# Altium footprint library SQ-1.PcbLib: 34 footprints (part 1 of 3)
Each footprint in its own frame and in the unit in brackets; x right, y up, seen from the top. Pads: shape width x height; smd on the part's side, far side on the other; paste and mask are expansions set on the pad; w line width, h text height; cw(c..) or ccw(c..) is an arc to the next point about the centre after c.
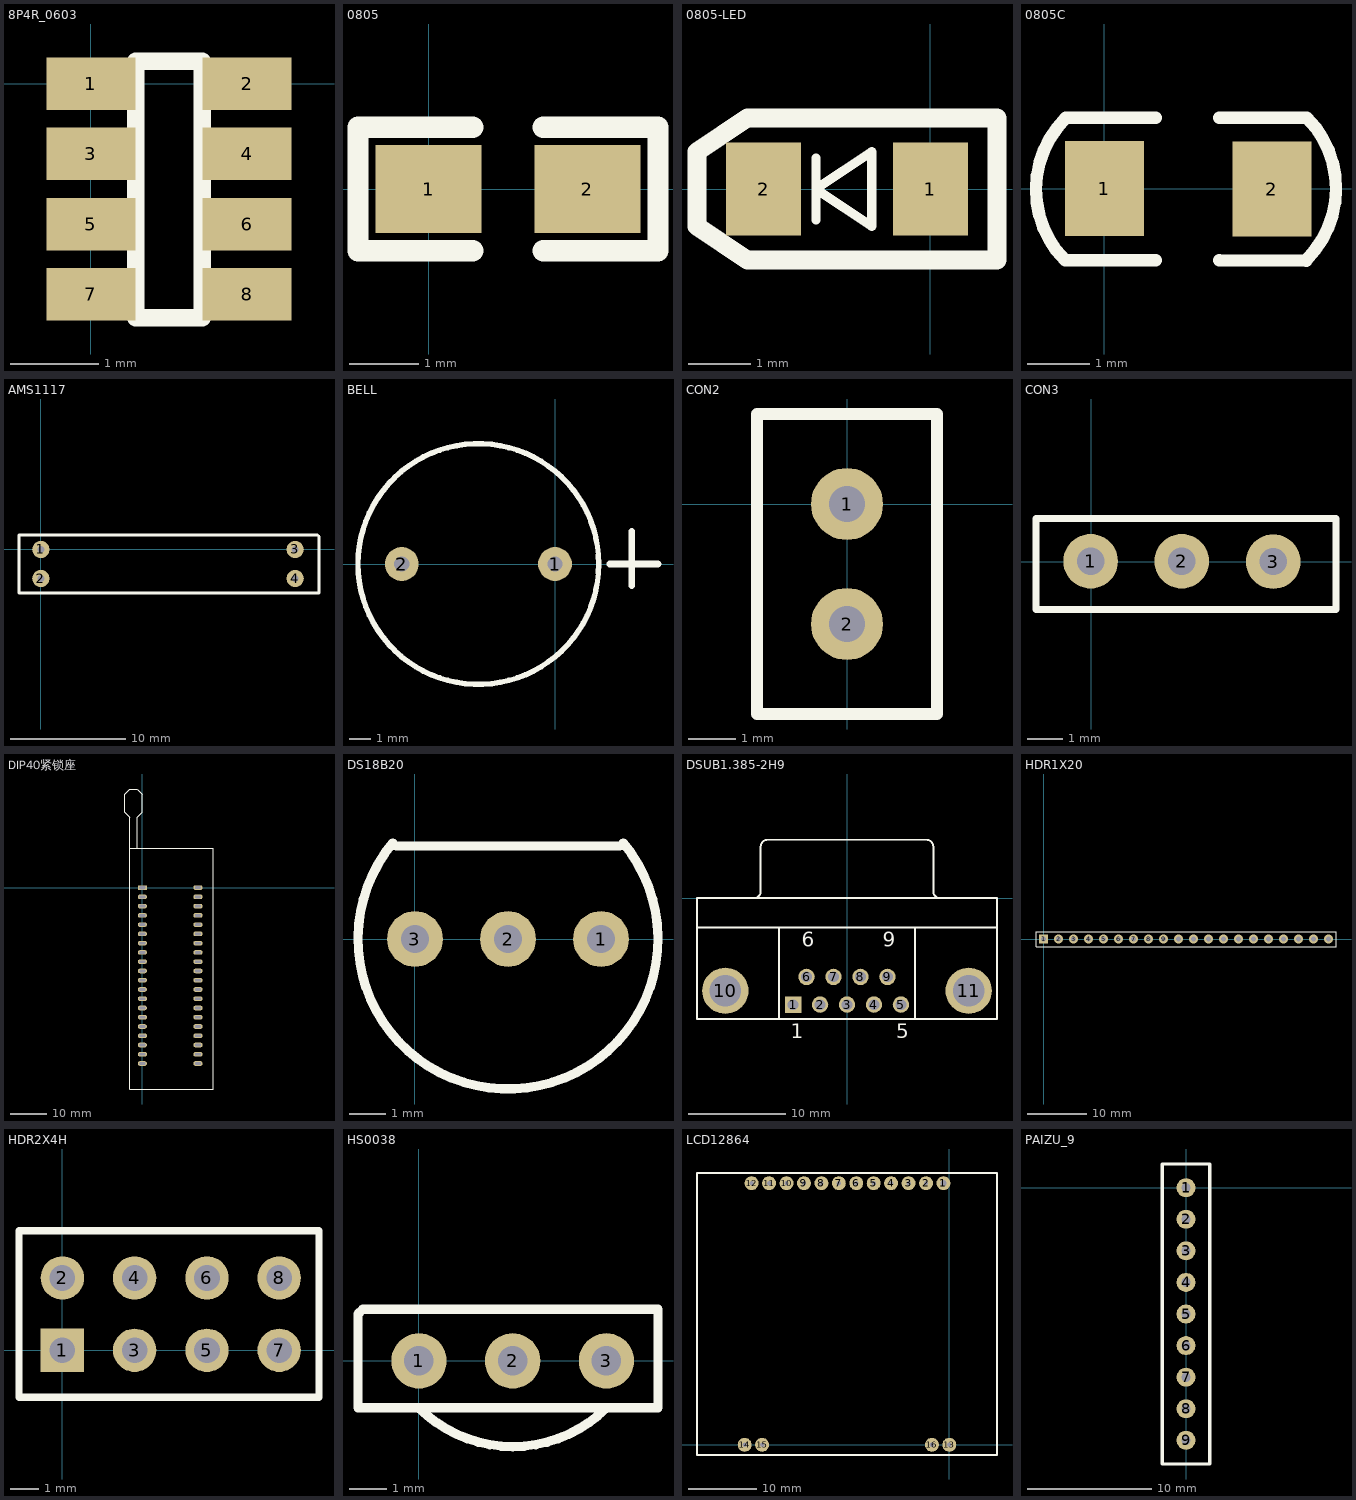
[diagram p0: the footprints below, top view; thin cyan lines are the x and y axes]

## 8P4R_0603 [mm]
pads (8):
  rect 1.016x0.6 smd: 1(0,0) 2(1.778,0) 3(0,-0.8) 4(1.778,-0.8) 5(0,-1.6) 6(1.778,-1.6) 7(0,-2.4) 8(1.778,-2.4)
Top Overlay:
  lines w0.2: 0.508,-2.667 0.508,0.254 1.27,0.254 1.27,-2.667 0.508,-2.667

## 0805 [mil]
pads (2):
  rect 60x50 smd: 1(0,0) 2(90,0)
Top Overlay:
  lines w12: 25,-35 -40,-35 -40,35 25,35 ; 65,-35 130,-35 130,35 65,35

## 0805-LED [mm]
pads (2):
  rect 1.2x1.5 smd: 1(0,0) 2(-2.686,0)
Top Overlay:
  lines w0.15: -1.843,-0.5 -1.843,0.5 ; -1.843,0 -0.943,-0.6 -0.943,0.6 -1.843,0
  lines w0.3: -3.756,-0.6 -2.943,-1.143 1.07,-1.143 1.07,1.143 -2.943,1.143 -3.756,0.6 -3.756,-0.6

## 0805C [mil]
pads (2):
  rect 50x60 smd: 1(0,0) 2(105.71,-0.32)
Top Overlay:
  lines w7.87: -24.88,-45.24 cw(c20.37,-0.57) -24.29,44.68 ; -24.8,-45.28 32.44,-45.31 ; -24.13,44.69 32.44,44.69 ; 72.44,-45.31 127.32,-45.47 ; 72.44,44.69 127.83,44.84 cw(c82.58,0.18) 127.24,-45.08

## AMS1117 [mm]
pads (4):
  round 1.5 hole 0.6: 1(0,0) 2(0,-2.54) 3(22.18,0) 4(22.18,-2.54)
Top Overlay:
  lines w0.254: -1.905,-3.81 -1.905,1.27 24.13,1.27 24.257,1.143 24.257,-3.81 -1.905,-3.81

## BELL [mil]
pads (2):
  round 62 hole 28: 1(0,0) 2(-280,0)
Top Overlay:
  circle w10: c-140,0 r220
  lines w12: 100,0 188.19,0 ; 140,-40 140,60

## CON2 [mil]
pads (2):
  round 60 hole 30: 1(0,0) 2(0,-100)
Top Overlay:
  lines w10: -75,-175 75,-175 75,75 -75,75 -75,-175

## CON3 [mil]
pads (3):
  round 60 hole 30: 1(-0.51,0.35) 2(99.49,0.35) 3(200,0)
Top Overlay:
  lines w8: -60.51,-52.65 -60.51,47.35 269,47.35 269,-52.65 -60.51,-52.65

## DIP40紧锁座 [mil]
pads (40):
  rect 100x50 hole 30 slot 62.99 at 0 deg: 1(0,0)
  oval 100x50 hole 25 slot 62.99 at 0 deg: 2(0,-100) 3(0,-200) 4(0,-300) 5(0,-400) 6(0,-500) 7(0,-600) 8(0,-700) 9(0,-800) 10(0,-900) 11(0,-1000) 12(0,-1100) 13(0,-1200) 14(0,-1300) 15(0,-1400) 16(0,-1500) 17(0,-1600) 18(0,-1700) 19(0,-1800) 20(0,-1900) 21(600,-1900) 22(600,-1800) 23(600,-1700) 24(600,-1600) 25(600,-1500) 26(600,-1400) 27(600,-1300) 28(600,-1200) 29(600,-1100) 30(600,-1000) 31(600,-900) 32(600,-800) 33(600,-700) 34(600,-600) 35(600,-500) 36(600,-400) 37(600,-300) 38(600,-200) 39(600,-100) 40(600,0)
Top Overlay:
  lines w10: -58.4,1065 -135,1065 -190,1010 -190,995 -190,815 -135,760 -135,425 ; -55,425 -55,760 0,815 0,995 0,1010 -55,1065 ; -135,425 -135,-2175 765,-2175 765,425 -135,425

## DS18B20 [mil]
pads (3):
  round 60 hole 30: 1(200,0) 2(100,0) 3(0,0)
Top Overlay:
  lines w10: -23.87,103.23 ccw(c100,0) 223.87,103.23 ; -20,100 220,100

## DSUB1.385-2H9 [mm] "Connector; D Subminiature; 9 Position; Right Angle; Pitch 1.385 mm"
height 12.75
pads (11):
  rect 1.69x1.69 hole 1.09: 1(-5.54,-10.92)
  round 1.69 hole 1.09: 2(-2.77,-10.92) 3(0,-10.92) 4(2.77,-10.92) 5(5.54,-10.92) 6(-4.155,-8.08) 7(-1.385,-8.08) 8(1.385,-8.08) 9(4.155,-8.08)
  round 4.76 hole 3.26: 10(-12.495,-9.5) 11(12.495,-9.5)
Top Overlay:
  lines w0.2: -15.4,-3 15.4,-3 ; -9.56,0.005 ccw(c-9.56,0.7) -8.865,0.7 -8.865,5.3 ; -8.86,5.305 cw(c-8.165,5.305) -8.165,6 8.165,6 cw(c8.165,5.305) 8.86,5.305 ; -7,-12.4 -7,-3 ; 7,-12.4 7,-3 ; 8.865,5.3 8.865,0.7 ccw(c9.56,0.7) 9.56,0.005 ; -15.4,-12.4 15.4,-12.4 15.4,0 -15.4,0 -15.4,-12.4
  text "6" at -4.655,-4.975 h1.5
  text "9" at 3.655,-4.975 h1.5
  text "5" at 5.04,-14.375 h1.5
  text "1" at -5.79,-14.375 h1.5

## HDR1X20 [mm] "Connector; Header; 20 Position"
pads (20):
  rect 1.5x1.5 hole 0.9: 1(0,0)
  round 1.5 hole 0.9: 2(2.54,0) 3(5.08,0) 4(7.62,0) 5(10.16,0) 6(12.7,0) 7(15.24,0) 8(17.78,0) 9(20.32,0) 10(22.86,0) 11(25.4,0) 12(27.94,0) 13(30.48,0) 14(33.02,0) 15(35.56,0) 16(38.1,0) 17(40.64,0) 18(43.18,0) 19(45.72,0) 20(48.26,0)
Top Overlay:
  lines w0.2: -1.27,-1.27 49.53,-1.27 49.53,1.27 0.635,1.27 -1.27,1.27 -1.27,-1.27

## HDR2X4H [mil]
pads (8):
  rect 60x60 hole 35.43: 1(0,0)
  round 60 hole 35.43: 2(0,100) 3(100,0) 4(100,100) 5(200,0) 6(200,100) 7(300,0) 8(300,100)
Top Overlay:
  lines w10: -60,-65 345,-65 355,-65 355,165.35 -60,165.35 -60,95 -60,-65

## HS0038 [mm]
pads (3):
  round 1.5 hole 0.8: 1(0,0) 2(2.54,0) 3(5.08,0)
Top Overlay:
  lines w0.254: 0,-1.27 ccw(c2.54,1.27) 5.08,-1.27 ; -1.651,-1.27 -1.651,1.27 -1.524,1.397 6.477,1.397 6.477,-1.27 -1.651,-1.27

## LCD12864 [mil]
pads (16):
  round 80 hole 35.43: 1(-33.46,1500)
  round 80 hole 25: 2(-133.46,1500) 3(-233.46,1500) 4(-333.46,1500) 5(-433.46,1500) 6(-533.46,1500) 7(-633.46,1500) 8(-733.46,1500) 9(-833.46,1500) 10(-933.46,1500) 11(-1033.46,1500) 12(-1133.46,1500) 13(0,0) 14(-1173.23,0) 15(-1073.23,0) 16(-100,0)
Top Overlay:
  lines w10: -1446.85,-59.06 273.62,-59.06 273.62,1559.06 -1446.85,1559.06 -1446.85,-59.06

## PAIZU_9 [mil]
pads (9):
  round 60 hole 30: 1(0,0) 2(0,-100) 3(0,-200) 4(0,-300) 5(0,-400) 6(0,-500) 7(0,-600) 8(0,-700) 9(0,-800)
Top Overlay:
  lines w10: -75,-875 -75,75 75,75 75,-875 -75,-875